# EAGLE library part MPCS6P (library stan)
Molex Pico-Clasp Single Row 6 Pos
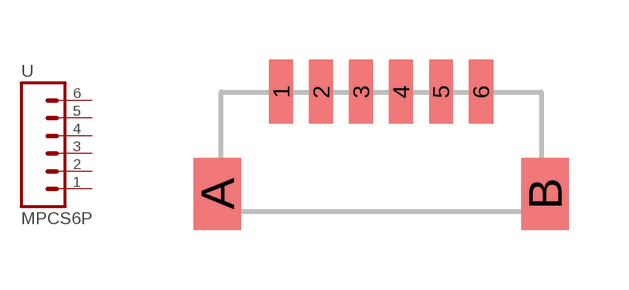
[diagram p1: symbol with the pads of MOLEX-PICO_CLASP_S6P; footprint MOLEX-PICO_CLASP_S6P]

Designator prefix -

## MPCS6PH  [MOLEX-PICO_CLASP_S6P]
1  1  pas
2  2  pas
3  3  pas
4  4  pas
5  5  pas
6  6  pas

## Footprint MOLEX-PICO_CLASP_S6P (pad centres in mm)
smd 0.6 x 1.6: 1 -2.5,1; 2 -1.5,1; 3 -0.5,1; 4 0.5,1; 5 1.5,1; 6 2.5,1
smd 1.2 x 1.8: A -4.1,-1.55; B 4.1,-1.55